# Altium footprint library bms_slave.PcbLib: 26 footprints (part 1 of 2)
Each footprint in its own frame and in the unit in brackets; x right, y up, seen from the top. Pads: shape width x height; smd on the part's side, far side on the other; paste and mask are expansions set on the pad; w line width, h text height; cw(c..) or ccw(c..) is an arc to the next point about the centre after c.
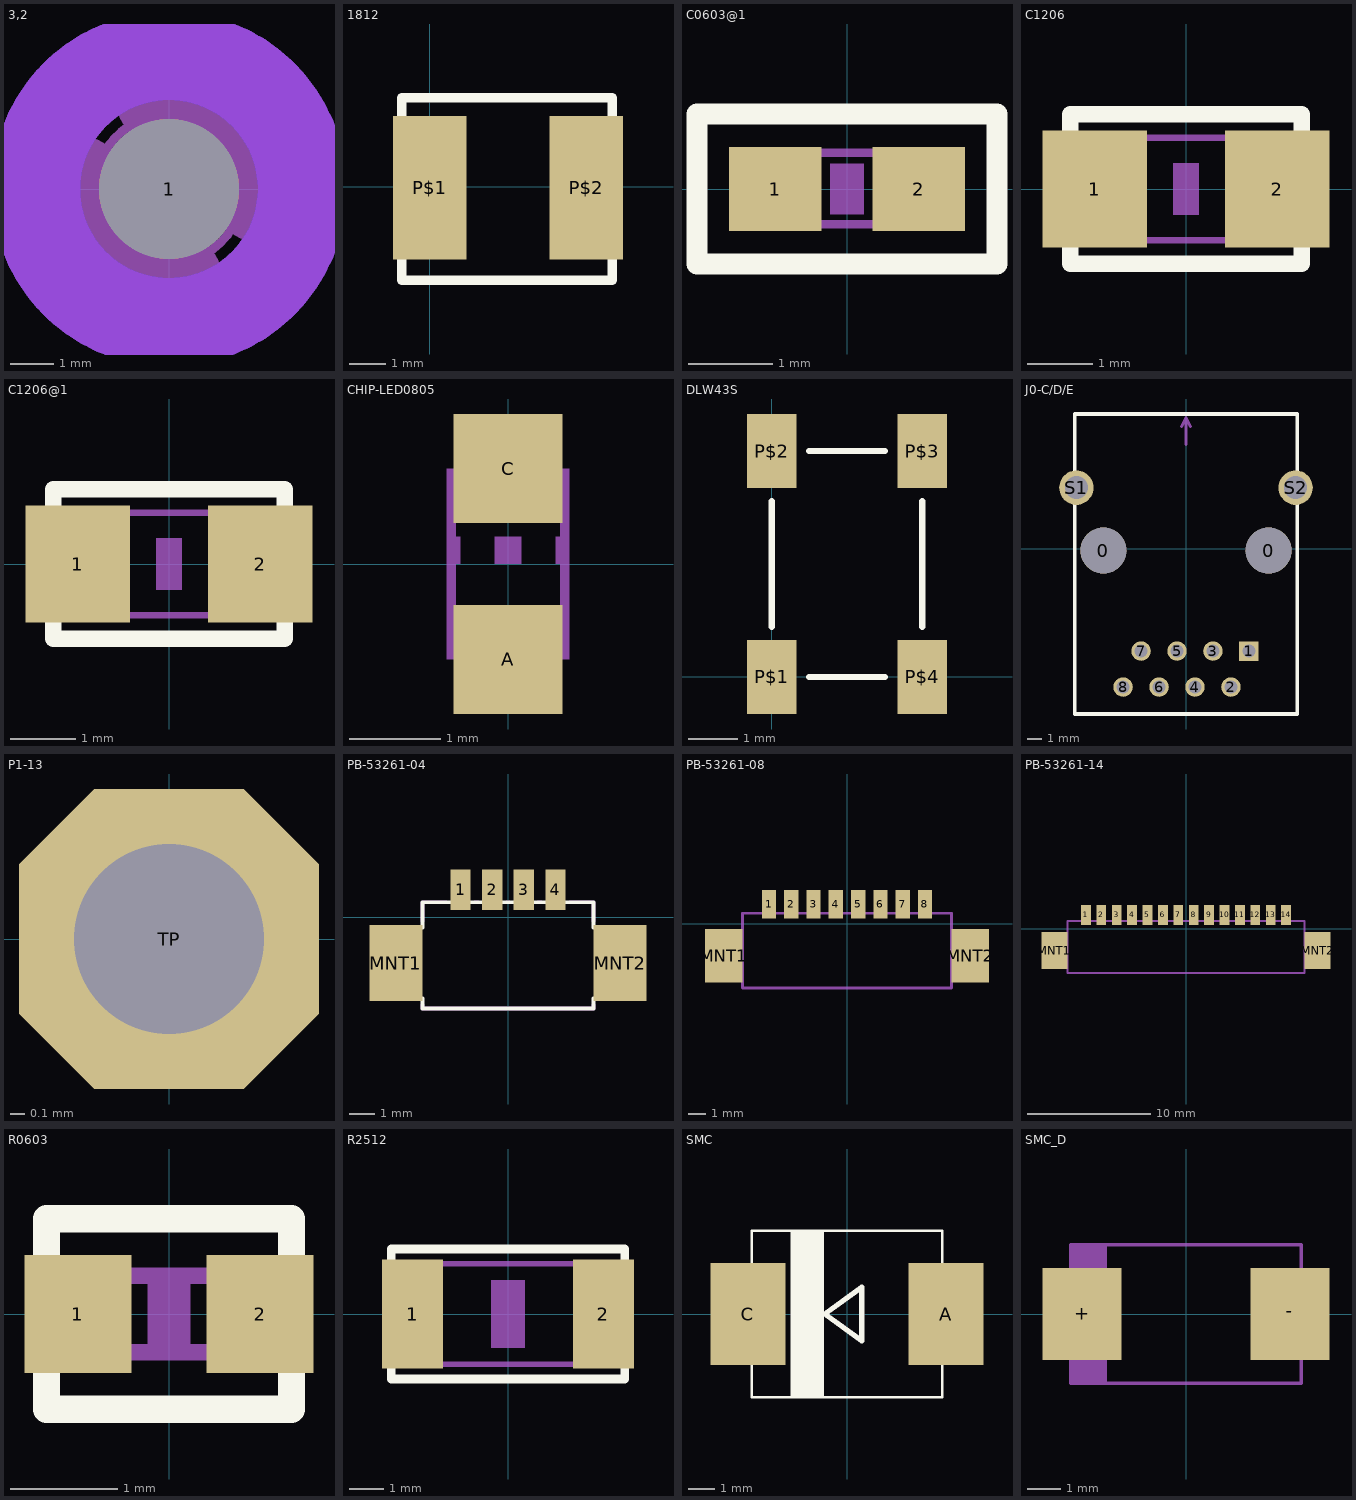
[diagram p0: the footprints below, top view; thin cyan lines are the x and y axes]

## 3,2 [mil] "3,2"
pads (1):
  round 125.98 hole 125.98: 1(0,0)
Top Layer keep-out:
  circle w80: c0,0 r120
Bottom Layer keep-out:
  circle w80: c0,0 r120
Mechanical 2:
  circle w8: c0,0 r66.93
  circle w6: c0,0 r135
Mechanical 2 keep-out:
  circle w80: c0,0 r120
  circle w80: c0,0 r120
Mechanical 12:
  circle w80: c0,0 r120
Mechanical 16:
  circle w18: c0,0 r30
  lines w98: -85,0 ccw(c0,0) 0,-85 ; 0,85 cw(c0,0) 85,0

## 1812 [mm] "1812"
pads (2):
  rect 2x3.9 smd: P$1(0,-0.03) P$2(4.25,-0.03)
Top Overlay:
  lines w0.254: -0.762,-2.54 4.953,-2.54 4.953,2.413 -0.762,2.413 -0.762,-1.524 -0.762,-2.286 -0.762,-2.54

## C0603@1 [mm] "C0603@1"
pads (2):
  rect 1.1x1 smd: 1(-0.85,0) 2(0.85,0)
Top Overlay:
  lines w0.254: -1.778,-0.889 -1.778,0.381 -1.778,0.889 -1.397,0.889 1.778,0.889 1.778,-0.889 -1.778,-0.889
Mechanical 8:
  rectangle: -0.2,-0.3 0.2,0.3
Mechanical 16:
  rectangle: -0.838,-0.47 -0.338,0.48
  rectangle: 0.33,-0.47 0.83,0.48
  lines w0.102: -0.356,-0.419 0.356,-0.419 ; -0.356,0.432 0.356,0.432

## C1206 [mil] "C1206"
pads (2):
  rect 62.99x70.87 smd: 1(-55.12,0) 2(55.12,0)
Top Overlay:
  lines w10: -70,-45 70,-45 70,45 -70,45 -70,-45
Mechanical 8:
  rectangle: -7.87,-15.75 7.87,15.75
Mechanical 16:
  rectangle: -67,-33.5 -37.47,33.43
  rectangle: 37.47,-33.43 67,33.5
  lines w4: -37.99,-30.98 37.99,-30.98 ; -37.99,30.98 37.99,30.98

## C1206@1 [mil] "C1206@1"
pads (2):
  rect 62.99x70.87 smd: 1(-55.12,0) 2(55.12,0)
Top Overlay:
  lines w10: -70,-45 -70,45 70,45 70,-45 -50,-45 -70,-45
Mechanical 8:
  rectangle: -7.87,-15.75 7.87,15.75
Mechanical 16:
  rectangle: 37.47,-33.43 67,33.5
  rectangle: -67,-33.5 -37.47,33.43
  lines w4: -37.99,-30.98 37.99,-30.98 ; -37.99,30.98 37.99,30.98

## CHIP-LED0805 [mil] "CHIP-LED0805"
pads (2):
  rect 47.24x47.24 smd: A(0,-41.34) C(0,41.34)
Mechanical 2:
  rectangle: -5.91,0 5.91,11.81
  rectangle: 20.67,0 26.57,11.81
  rectangle: -26.57,0 -20.67,11.81
Mechanical 16:
  rectangle: -26.57,-41.34 26.57,-17.72
  rectangle: -26.57,17.72 26.57,41.34
  lines w4: -24.61,-17.72 -24.61,17.72 ; 24.61,-18.7 24.61,17.72

## DLW43S [mil] "DLW43S"
pads (4):
  rect 39.37x59.06 smd: P$1(0,0) P$2(0,180) P$3(120,180) P$4(120,0)
Top Overlay:
  lines w5: 0,40 0,140 ; 30,0 90,0 ; 30,180 90,180 ; 120,40 120,140

## J0-C/D/E [mil] "J0-C/D/E"
pads (12):
  round 128 hole 128: 0(-230,-5) 0(230,-5)
  rect 54x54 hole 36: 1(175,-285)
  round 54 hole 36: 2(125,-385) 3(75,-285) 4(25,-385) 5(-25,-285) 6(-75,-385) 7(-125,-285) 8(-175,-385)
  round 96 hole 64: S1(-305,170) S2(305,170)
Top Overlay:
  lines w10: -310,-460 -310,375 310,375 310,-460 -310,-460
Mechanical 16:
  lines w8: -12.5,340 0,365 ; 0,290 0,365 ; 12.5,340 0,365
Mechanical 18:
  text "FRONT" at 85.68,294.26 h49.6
  text "2" at 171.1,-293.12 h49.6
  text "4" at 71.97,-293.24 h49.6
  text "6" at -29.02,-293.65 h49.6
  text "8" at -129.1,-293.65 h49.6
  text "7" at -79.47,-193.65 h49.6
  text "5" at 21.02,-194.19 h49.6
  text "3" at 120.77,-193.65 h49.6
  text "1" at 211.69,-193.12 h49.6

## P1-13 [mil] "P1-13"
pads (1):
  oct 82.3x82.3 hole 52: TP(0,0)
Mechanical 16:
  circle w6: c0,0 r30
  rectangle: -13,-13 13,13

## PB-53261-04 [mil] "PB-53261-04"
pads (6):
  rect 31.5x62.99 smd: 1(-73.82,43.31) 2(-24.61,43.31) 3(24.61,43.31) 4(73.82,43.31)
  rect 82.68x118.11 smd: MNT1(-174.21,-70.87) MNT2(174.21,-70.87)
Top Overlay:
  lines w6: -132.87,-125.98 -132.87,-141.73 132.87,-141.73 132.87,-125.98 ; -132.87,-15.75 -132.87,23.62 132.87,23.62 132.87,-15.75
Mechanical 2:
  lines w6: -132.87,-136.81 -132.87,-141.73 132.87,-141.73 132.87,-136.81 ; -132.87,-4.92 -132.87,23.62 -96.46,23.62 ; -51.18,23.62 -47.24,23.62 ; -1.97,23.62 1.97,23.62 ; 47.24,23.62 51.18,23.62 ; 96.46,23.62 132.87,23.62 132.87,-4.92

## PB-53261-08 [mil] "PB-53261-08"
pads (10):
  rect 31.5x62.99 smd: 1(-172.24,43.31) 2(-123.03,43.31) 3(-73.82,43.31) 4(-24.61,43.31) 5(24.61,43.31) 6(73.82,43.31) 7(123.03,43.31) 8(172.24,43.31)
  rect 82.68x118.11 smd: MNT1(-272.64,-70.87) MNT2(272.64,-70.87)
Mechanical 2:
  lines w6: -231.3,-136.81 -231.3,-141.73 231.3,-141.73 231.3,-136.81 ; -231.3,-4.92 -231.3,23.62 -194.88,23.62 ; -149.61,23.62 -145.67,23.62 ; -100.39,23.62 -96.46,23.62 ; -51.18,23.62 -47.24,23.62 ; -1.97,23.62 1.97,23.62 ; 47.24,23.62 51.18,23.62 ; 96.46,23.62 100.39,23.62 ; 145.67,23.62 149.61,23.62 ; 194.88,23.62 231.3,23.62 231.3,-4.92
Mechanical 16:
  rectangle: -129.33,23.62 -116.73,62.99
  rectangle: -178.54,23.62 -165.94,62.99
  rectangle: 116.73,23.62 129.33,62.99
  rectangle: 165.94,23.62 178.54,62.99
  rectangle: -80.12,23.62 -67.52,62.99
  rectangle: -30.91,23.62 -18.31,62.99
  rectangle: 18.31,23.62 30.91,62.99
  rectangle: 67.52,23.62 80.12,62.99
  lines w6: -231.3,-125.98 -231.3,-15.75 ; -231.3,-125.98 -231.3,-141.73 231.3,-141.73 231.3,-125.98 ; -231.3,-125.98 -298.23,-125.98 -298.23,-15.75 -231.3,-15.75 ; -231.3,-15.75 -231.3,23.62 231.3,23.62 231.3,-15.75 ; 231.3,-125.98 231.3,-15.75 ; 231.3,-125.98 298.23,-125.98 298.23,-15.75 231.3,-15.75

## PB-53261-14 [mil] "PB-53261-14"
pads (16):
  rect 31.5x62.99 smd: 1(-319.88,43.31) 2(-270.67,43.31) 3(-221.46,43.31) 4(-172.24,43.31) 5(-123.03,43.31) 6(-73.82,43.31) 7(-24.61,43.31) 8(24.61,43.31) 9(73.82,43.31) 10(123.03,43.31) 11(172.24,43.31) 12(221.46,43.31) 13(270.67,43.31) 14(319.88,43.31)
  rect 82.68x118.11 smd: MNT1(-420.28,-70.87) MNT2(420.28,-70.87)
Mechanical 2:
  lines w6: -378.94,-136.81 -378.94,-141.73 378.94,-141.73 378.94,-136.81 ; -378.94,-4.92 -378.94,23.62 -342.52,23.62 ; -297.24,23.62 -293.31,23.62 ; -248.03,23.62 -244.09,23.62 ; -198.82,23.62 -194.88,23.62 ; -149.61,23.62 -145.67,23.62 ; -100.39,23.62 -96.46,23.62 ; -51.18,23.62 -47.24,23.62 ; -1.97,23.62 1.97,23.62 ; 47.24,23.62 51.18,23.62 ; 96.46,23.62 100.39,23.62 ; 145.67,23.62 149.61,23.62 ; 194.88,23.62 198.82,23.62 ; 244.09,23.62 248.03,23.62 ; 293.31,23.62 297.24,23.62 ; 342.52,23.62 378.94,23.62 378.94,-4.92
Mechanical 16:
  rectangle: 313.58,23.62 326.18,62.99
  rectangle: 264.37,23.62 276.97,62.99
  rectangle: 215.16,23.62 227.76,62.99
  rectangle: 165.94,23.62 178.54,62.99
  rectangle: 116.73,23.62 129.33,62.99
  rectangle: 67.52,23.62 80.12,62.99
  rectangle: -80.12,23.62 -67.52,62.99
  rectangle: -129.33,23.62 -116.73,62.99
  rectangle: -178.54,23.62 -165.94,62.99
  rectangle: -227.76,23.62 -215.16,62.99
  rectangle: 18.31,23.62 30.91,62.99
  rectangle: -30.91,23.62 -18.31,62.99
  rectangle: -326.18,23.62 -313.58,62.99
  rectangle: -276.97,23.62 -264.37,62.99
  lines w6: -378.94,-125.98 -445.87,-125.98 -445.87,-15.75 -378.94,-15.75 ; -378.94,-125.98 -378.94,-141.73 378.94,-141.73 378.94,-125.98 ; -378.94,-125.98 -378.94,-15.75 ; -378.94,-15.75 -378.94,23.62 378.94,23.62 378.94,-15.75 ; 378.94,-125.98 445.87,-125.98 445.87,-15.75 378.94,-15.75 ; 378.94,-125.98 378.94,-15.75

## R0603 [mm] "R0603"
pads (2):
  rect 1x1.1 smd: 1(-0.85,0) 2(0.85,0)
Top Overlay:
  lines w0.254: -1.143,-0.889 -1.143,0.889 1.143,0.889 1.143,-0.889 -1.143,-0.889
Mechanical 8:
  rectangle: -0.2,-0.4 0.2,0.4
Mechanical 16:
  rectangle: 0.432,-0.432 0.838,0.432
  rectangle: -0.838,-0.432 -0.432,0.432
  lines w0.152: -0.432,-0.356 0.432,-0.356 ; -0.432,0.356 0.432,0.356

## R2512 [mil] "R2512"
pads (2):
  rect 70.87x125.98 smd: 1(-110.24,0) 2(110.24,0)
Top Overlay:
  lines w10: -135,-75 -135,75 135,75 135,-75 -135,-75
Mechanical 8:
  rectangle: -19.69,-39.37 19.69,39.37
Mechanical 16:
  rectangle: 93,-61 126.46,61.05
  rectangle: -126,-61 -92.54,61.05
  lines w6: -92.99,-57.99 93.98,-57.99 ; -92.99,57.99 93.98,57.99

## SMC [mm] "SMC"
pads (2):
  rect 2.8x3.8 smd: A(3.7,0) C(-3.7,0)
Top Overlay:
  rectangle: -2.1,-3.1 -0.85,3.1
  lines w0.102: -3.561,-3.105 3.561,-3.105 3.561,3.105 -3.561,3.105 -3.561,-3.105
  lines w0.203: -0.83,0 0.543,1 0.543,-1 -0.83,0
Mechanical 16:
  rectangle: 3.561,-1.092 4.094,1.092
  rectangle: -4.094,-1.092 -3.561,1.092

## SMC_D [mil] "SMC_D"
pads (2):
  rect 94.49x110.24 smd: +(-124.02,0) -(124.02,0)
Mechanical 16:
  rectangle: -143.7,-47.24 -135.83,47.24
  region: 143.7,47.24 135.83,47.24 135.83,-47.24 143.7,-47.24
  rectangle: -137.8,-82.68 -94.49,82.68
  lines w4: -137.8,-82.68 137.8,-82.68 137.8,82.68 -137.8,82.68 -137.8,-82.68